# Altium footprint library PCBLIB2.PcbLib: 63 footprints (part 1 of 4)
Each footprint in its own frame and in the unit in brackets; x right, y up, seen from the top. Pads: shape width x height; smd on the part's side, far side on the other; paste and mask are expansions set on the pad; w line width, h text height; cw(c..) or ccw(c..) is an arc to the next point about the centre after c.
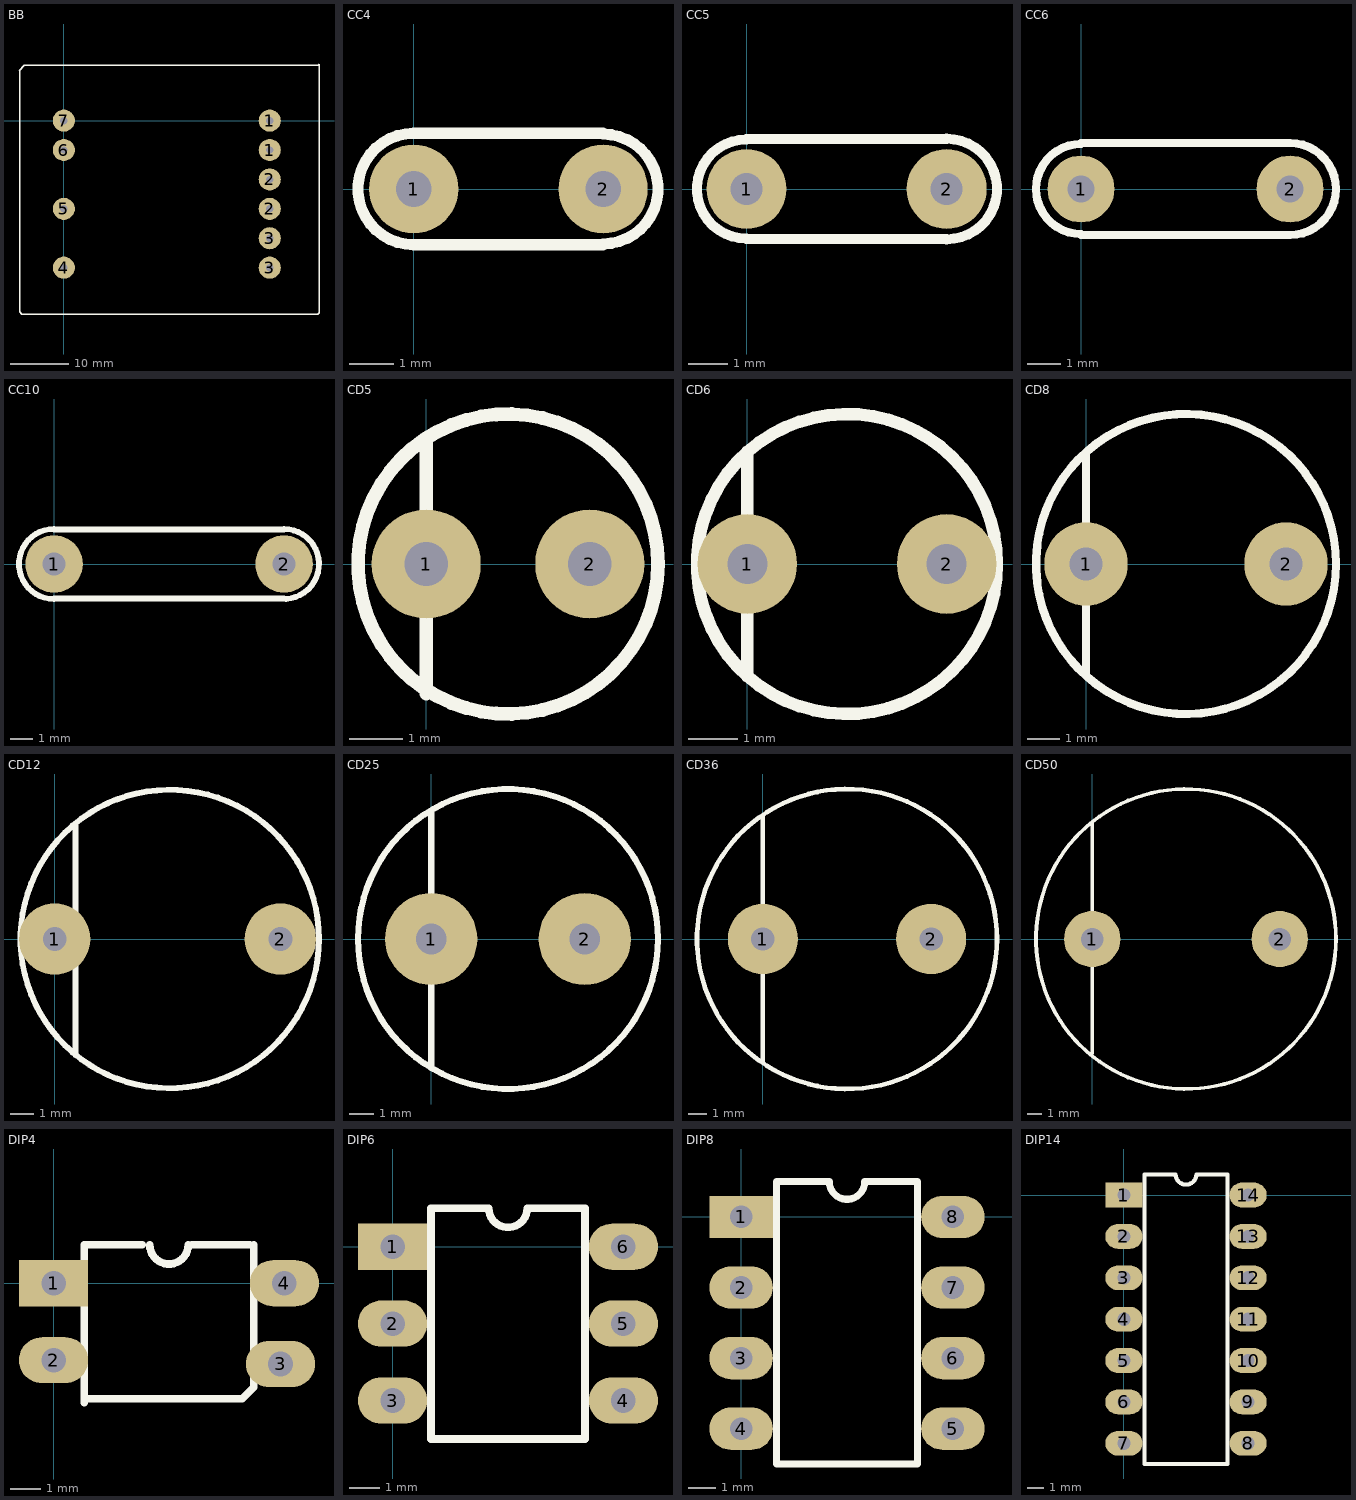
[diagram p0: the footprints below, top view; thin cyan lines are the x and y axes]

## BB [mil]
pads (10):
  round 150 hole 50: 1(1400,-200) 1(1400,0) 2(1400,-600) 2(1400,-400) 3(1400,-1000) 3(1400,-800) 4(0,-1000) 5(0,-600) 6(0,-200) 7(0,0)
TopOverlay:
  lines w10: -305,340 -270,375 1725,375 1735,385 1735,-1305 1725,-1315 -285,-1315 -300,-1300 -300,340

## CC4 [mil]
pads (2):
  round 80 hole 32: 1(0,0) 2(170,0)
TopOverlay:
  lines w10: 170,-50 0,-50 cw(c0,0) 0,50 170,50 ; 170,-49.24 ccw(c170,0) 170,49.24

## CC5 [mil]
pads (2):
  round 80 hole 32: 1(0,0) 2(200,0)
TopOverlay:
  lines w10: 0,-50 200,-50 ; 0,-49.5 cw(c0,0) 0,49.5 ; 0,50 200,50 ; 200,-50.25 ccw(c200,0) 200,50.25

## CC6 [mil]
pads (2):
  round 80 hole 32: 1(0,0) 2(250,0)
TopOverlay:
  lines w10: 0,-55 250,-55 ccw(c250,0) 250,55 0,55 ; 0,-53.85 cw(c0,0) 0,53.85

## CC10 [mil]
pads (2):
  round 100 hole 40: 1(0,0) 2(400,0)
TopOverlay:
  lines w10: 0,-61.03 cw(c0,0) 0,61.03 ; 0,-60 400,-60 ; 0,60 400,60 ; 394.95,-60.62 ccw(c400,0) 400,60.83

## CD5 [mil]
pads (2):
  round 80 hole 32: 1(0,0) 2(120,0)
TopOverlay:
  circle w10: c60,0 r110
  lines w10: 0,-95 0,90

## CD6 [mil]
pads (2):
  round 80 hole 32: 1(0,0) 2(160,0)
TopOverlay:
  circle w10: c80,0 r120.42
  lines w10: 0,-90 0,90

## CD8 [mil]
pads (2):
  round 100 hole 40: 1(0,0) 2(240,0)
TopOverlay:
  circle w10: c120,0 r180
  lines w10: 0,-130 0,130

## CD12 [mil]
pads (2):
  round 120 hole 40: 1(0,0) 2(380,0)
TopOverlay:
  circle w10: c193.75,0 r251.25
  lines w10: 35,-195 35,190

## CD25 [mil]
pads (2):
  round 150 hole 50: 1(0,0) 2(250,0)
TopOverlay:
  circle w10: c125,0 r244.18
  lines w10: 0,-210 0,205

## CD36 [mil]
pads (2):
  round 150 hole 50: 1(0,0) 2(360,0)
TopOverlay:
  circle w10: c180,0 r320.98
  lines w10: 0,-265 0,265

## CD50 [mil]
pads (2):
  round 150 hole 60: 1(0,0) 2(500,0)
TopOverlay:
  circle w10: c250,0 r400
  lines w10: 0,-305 0,310

## DIP4 [mil]
pads (4):
  rect 90x60 hole 32: 1(0,0)
  oval 90x60 hole 32: 2(0,-100) 3(295,-105) 4(300,0)
TopOverlay:
  lines w10: 40,-155 40,50 115,50 ; 45,-150 245,-150 260,-135 260,50 ; 125,50 ccw(c150,50) 175,50 ; 180,50 255,50

## DIP6 [mil]
pads (6):
  rect 90x60 hole 32: 1(0,0)
  oval 90x60 hole 32: 2(0,-100) 3(0,-200) 4(300,-200) 5(300,-100) 6(300,0)
TopOverlay:
  lines w10: 50,-250 250,-250 250,50 175,50 cw(c150,50) 125,50 50,50 50,-250

## DIP8 [mil]
pads (8):
  rect 90x60 hole 32: 1(0,0)
  oval 90x60 hole 32: 2(0,-100) 3(0,-200) 4(0,-300) 5(300,-300) 6(300,-200) 7(300,-100) 8(300,0)
TopOverlay:
  lines w10: 50,-350 250,-350 250,50 175,50 cw(c150,50) 125,50 50,50 50,-350

## DIP14 [mil]
pads (14):
  rect 90x60 hole 32: 1(0,0)
  oval 90x60 hole 32: 2(0,-100) 3(0,-200) 4(0,-300) 5(0,-400) 6(0,-500) 7(0,-600) 8(300,-600) 9(300,-500) 10(300,-400) 11(300,-300) 12(300,-200) 13(300,-100) 14(300,0)
TopOverlay:
  lines w10: 50,-650 50,50 125,50 ccw(c150,50) 175,50 250,50 250,-650 50,-650